# Altium schematic symbol library DIOT_PSU_integrated.SCHLIB: 41 symbols
Pins are listed as number, name and electrical type; pins without a type are passive.

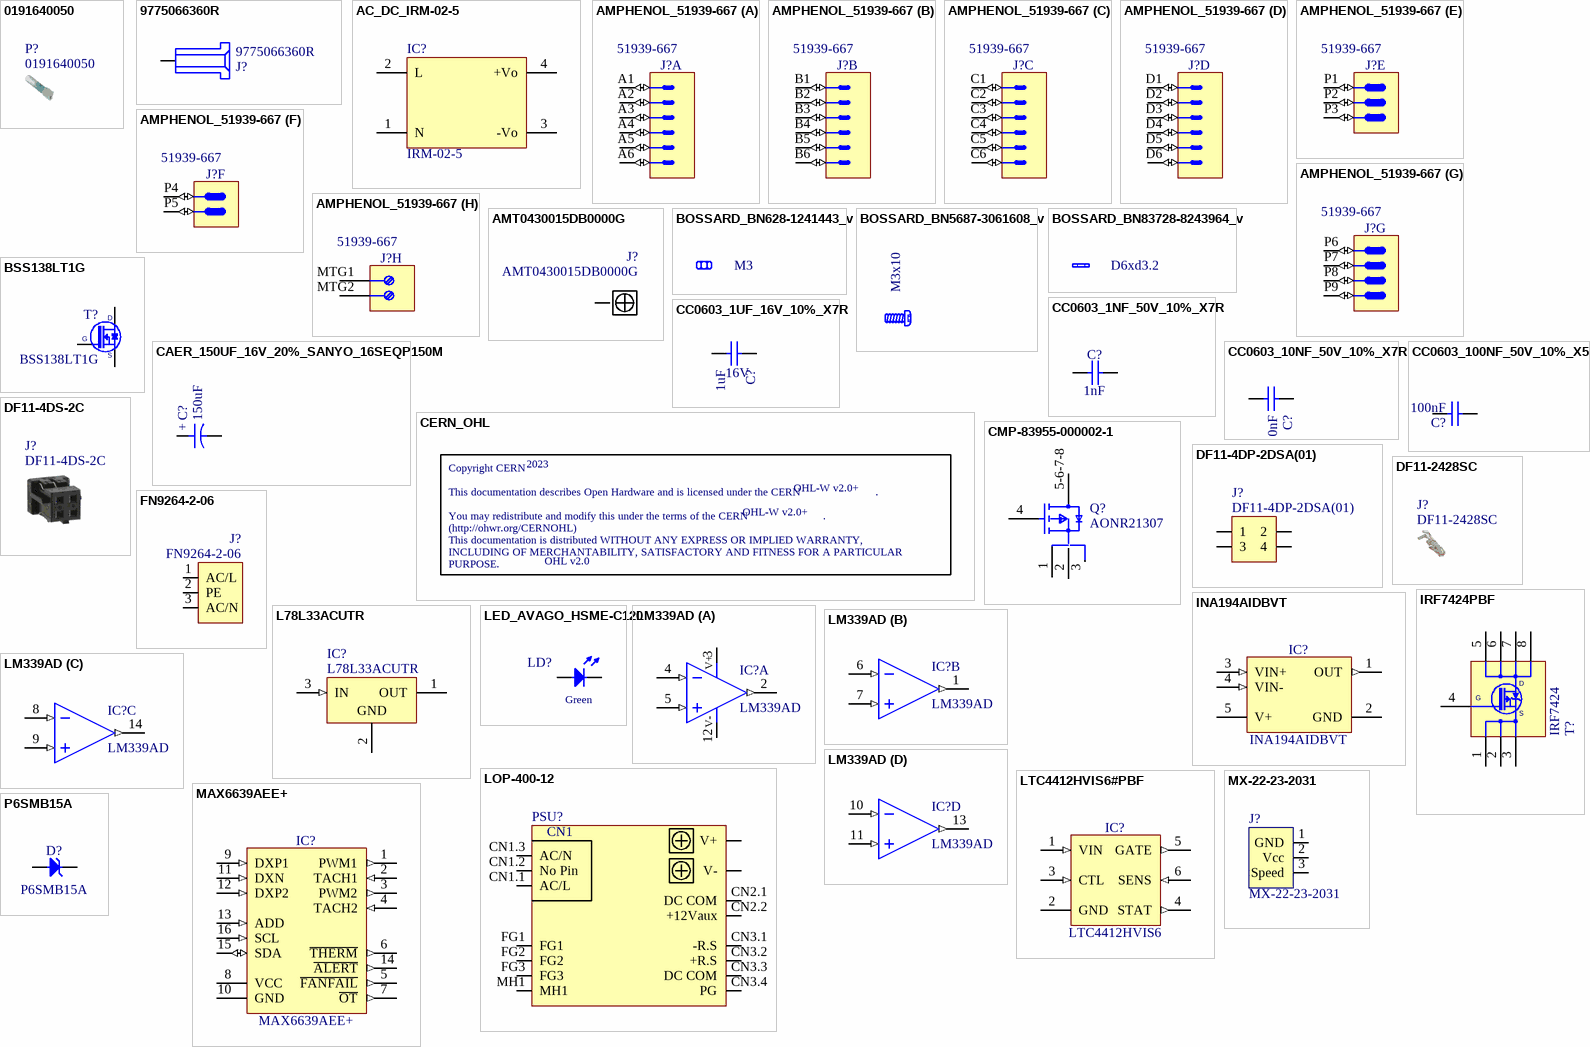
[diagram p0: symbols 0191640050 to P6SMB15A]

## 0191640050
designator P?
0.250" (6.35mm) Quick Connect Female 14-16 AWG Crimp Connector Fully Insulated Heat Shrink; Manufacturer: Molex; PressFit: No; Part Number: 0191640050; Component Kind: Socket Contact; Component Type: Socket Contact; Footprint: 0191640050; Pin Count: 1; Family: Perma-Seal; Mounted: Yes; Socket: No; SMD: No; Sense: No; Status: None; Part Description: 0.250" (6.35mm) Quick Connect Female 14-16 AWG Crimp Connector Fully Insulated Heat Shrink; Manufacturer Part Number: 0191640050; ComponentHeight: N/A; HelpURL: https://www.molex.com/en-us/products/part-detail/191640050?display=pdf; Author: LPA; CreateDate: 18.02.2025; LatestRevisionDate: 18.02.2025; ComponentLink1Description: Datasheet; ComponentLink1URL: https://www.molex.com/en-us/products/part-detail/191640050?display=pdf
footprint 0191640050 (Footprint not found)

## 9775066360R
designator J?
Round Standoff Threaded M3 Steel 0.039" (1.00mm); Manufacturer: Würth Elektronik; PressFit: No; Part Number: 9775066360R; Component Kind: Standard; Component Type: Standard; Footprint: 9775066360R; Pin Count: 1; Family: WA-SMSR; Mounted: Yes; Socket: No; SMD: No; Sense: No; Status: None; Part Description: Round Standoff Threaded M3 Steel 0.039" (1.00mm); Manufacturer Part Number: 9775066360R; ComponentHeight: 6.6mm; HelpURL: https://www.we-online.com/en/components/products/SMSR_SMD_STEEL_SPACER_M3_THREAD_INTERNAL#9775066360R; Author: LPA; CreateDate: 09.02.2025; LatestRevisionDate: 09.02.2025
footprint 9775066360R (Footprint not found)
pins: 1

## AC_DC_IRM-02-5
designator IC?, comment IRM-02-5
Power Supply; Part Description: 85-305VAC to 5VDC (400mA) 2W Power Supply; Manufacturer: MEAN WELL; PressFit: No; Bonding: No; Part Number: IRM-02-5; Component Kind: Standard; Component Type: Standard; Device: IRM-02-5; Footprint: PWS_MEANWELL_IRM-02; PackageDescription: IRM-02 Series, Body 33.7x22.2mm, Power Supply; Status: None; Manufacturer Part Number: IRM-02-5; Pin Count: 4; Mounted: Yes; Socket: No; SMD: No; Sense: No; ComponentHeight: 15mm; HelpURL: \\cern.ch\dfs\Applications\Altium\Datasheets\IRM-02-24.pdf; Author: GK; CreateDate: 14.02.2018; LatestRevisionDate: 14.02.2018
footprint PWS_MEANWELL_IRM-02
pins: 1 N (power), 2 L (power), 3 -Vo (power), 4 +Vo (power)

## AMPHENOL_51939-667
designator J?, comment Manufacturer Part Number: 51939-667  (hidden comment: PwrBlade)
Thru-Hole, Lead 3.43mm, PowerBlade Right Angled Power Connector 3ACP 2P 24S 4P Contacts; Part Number: AMPHENOL_51939-667; Part Description: Right Angle PowerBlade Power Connector 3ACP + 2P + 24S + 4P Contacts; Manufacturer: AMPHENOL; PressFit: No; Component Kind: Standard; Component Type: Standard; Footprint: AMPHENOL_51939-667; Pin Count: 33; Family: PwrBlade; Mounted: Yes; Socket: No; SMD: No; Sense: No; Status: None; ComponentHeight: 12.57mm; HelpURL: \\cern.ch\dfs\Applications\Altium\Datasheets\AMPHENOL_51939-667.pdf; Author: CERN DEM JLC; CreateDate: 05.03.2019; LatestRevisionDate: 05.03.2019
footprint AMPHENOL_51939-667
part A pins: A1 (io), A2 (io), A3 (io), A4 (io), A5 (io), A6 (io)
part B pins: B1 (io), B2 (io), B3 (io), B4 (io), B5 (io), B6 (io)
part C pins: C1 (io), C2 (io), C3 (io), C4 (io), C5 (io), C6 (io)
part D pins: D1 (io), D2 (io), D3 (io), D4 (io), D5 (io), D6 (io)
part E pins: P1 (io), P2 (io), P3 (io)
part F pins: P4 (io), P5 (io)
part G pins: P6 (io), P7 (io), P8 (io), P9 (io)
part H pins: MTG1 "Mounting Fixture", MTG2 "Mounting Fixture"

## AMT0430015DB0000G
designator J?
4 Pin Screw Terminal, Power Tap M3 Through Hole; Manufacturer: Amphenol Anytek; PressFit: No; Part Number: AMT0430015DB0000G; Component Kind: Standard; Component Type: Standard; Footprint: AMT0430015DB0000G; Pin Count: 4; Family: LOP-400; Mounted: Yes; Socket: No; SMD: No; Sense: No; Status: None; Part Description: 4 Pin Screw Terminal, Power Tap M3 Through Hole; Manufacturer Part Number: AMT0430015DB0000G; ComponentHeight: 12mm; HelpURL: https://www.anytek.com.cn/Upload/AMT43015DB-ed7a3ffa30954f7d99d4bb13dc927db5.pdf; Author: LPA; CreateDate: 09.02.2025; LatestRevisionDate: 09.02.2025
footprint AMT0430015DB0000G
pins: 1

## BOSSARD_BN628-1241443_v
designator NUT?, comment M3
Nut; Part Number: BOSSARD_BN628-1241443_v; Part Description: M3 Hexagon Nut ~0,8d, ISO 4032, DIN 934, Stainless Steel A2; Manufacturer: BOSSARD; Manufacturer Part Number: BN628 Art.1241443; PressFit: No; Component Kind: Standard; Component Type: Mechanical; Footprint: BOSSARD_BN628-1241443_v; Pin Count: 0; PackageDescription: M3 Hexagon Nut ~0,8d, ISO 4032, DIN 934, Stainless Steel A2; Mounted: Yes; Socket: No; SMD: No; Sense: No; Status: None; Value: M3; ComponentHeight: 2.4mm; HelpURL: \\cern.ch\dfs\Applications\Altium\Datasheets\BOSSARD_BN628-1241443.pdf; Author: CERN DEM JMW; CreateDate: 12/4/2015; LatestRevisionDate: 12/4/2015; ClassName: Overlapping
footprint BOSSARD_BN628-1241443_v

## BOSSARD_BN5687-3061608_v
designator SCREW?, comment M3x10
Screw; Part Number: BOSSARD_BN5687-3061608_v; Part Description: M3 L=10mm Hexalobular Socket Pan Head Screw, Fully Threaded, Stainless Steel A2; Manufacturer: BOSSARD; Manufacturer Part Number: BN5687 Art.3061608; PressFit: No; Component Kind: Standard; Component Type: Mechanical; Footprint: BOSSARD_BN5687-3061608_v; Pin Count: 0; PackageDescription: M3 L=10mm Hexalobular Socket Pan Head Screw, Fully Threaded - Stainless Steel A2; Mounted: Yes; Socket: No; SMD: No; Sense: No; Status: None; Value: M3x10; ComponentHeight: 12.4mm; HelpURL: \\cern.ch\dfs\Applications\Altium\Datasheets\BOSSARD_BN5687-3061608.pdf; Author: CERN DEM JLC; CreateDate: 22/08/2013; LatestRevisionDate: 22/08/2013; ClassName: Overlapping
footprint BOSSARD_BN5687-3061608_v

## BOSSARD_BN83728-8243964_v
designator WASHER?, comment D6xd3.2
Washer; Part Number: BOSSARD_BN83728-8243964_v; Part Description: Waved Spring Washer for M3 Screw - Steel 440-520 HV - Zinc Plated Blue; Manufacturer: BOSSARD; Manufacturer Part Number: BN83728 Art.8243964; PressFit: No; Component Kind: Standard; Component Type: Mechanical; Footprint: BOSSARD_BN83728-8243964_v; Pin Count: 0; PackageDescription: Waved Spring Washer for M3 Screw, Steel 440-520 HV, Zinc Plated Blue; Mounted: Yes; Socket: No; SMD: No; Sense: No; Status: None; Value: D6xd3.2; ComponentHeight: 0.4mm; HelpURL: \\cern.ch\dfs\Applications\Altium\Datasheets\BOSSARD_BN83728-8243964.pdf; Author: CERN DEM JLC; CreateDate: 27/04/2017; LatestRevisionDate: 27/04/2017; ClassName: Overlapping
footprint BOSSARD_BN83728-8243964_v

## BSS138LT1G
designator T?
N-CHANNEL MOSFET WITH DIODE; Part Description: 50V 200mA N-Channel Enhancement Mode Field-Effect Transistor; Manufacturer: ON SEMICONDUCTOR; PressFit: No; Bonding: No; Part Number: BSS138LT1G; Component Kind: Standard; Component Type: Standard; Device: BSS138LT1G; Footprint: SOT95P240X110-3N; PackageDescription: SOT23 3-Leads, Pitch 0.95mm - Body 1.4x3mm, IPC Medium Density; Manufacturer Part Number: BSS138LT1G; Pin Count: 3; Case: SOT23-3; Mounted: Yes; Socket: No; SMD: Yes; Sense: No; ComponentHeight: 1.11mm; HelpURL: \\cern.ch\dfs\Applications\Altium\Datasheets\BSS138LT1G.pdf; Author: CERN DEM JLC; CreateDate: 23.03.2009; LatestRevisionDate: 23.03.2009
footprint SOT95P240X110-3N
pins: 1 G, 2 S, 3 D

## CAER_150UF_16V_20%_SANYO_16SEQP150M
designator C?, comment 150uF
Polarised capacitor; Part Number: CAER_150UF_16V_20%_SANYO_16SEQP150M; Part Description: Aluminium Solid Capacitor with Conductive Polymer (SEQP Series); Manufacturer: SANYO OS-CON; Manufacturer Part Number: 16SEQP150M; Voltage: 16V; Tolerance: ±20%; Component Kind: Standard; Component Type: Standard; Footprint: CAPPR500-1050X800; Pin Count: 2; Value: 150uF; Status: Not Recommended; Case: LS5 D10 x H8; Mounted: Yes; Socket: No; SMD: No; Sense: No; ComponentHeight: 8mm; HelpURL: \\cern.ch\dfs\Applications\Altium\Datasheets\CAER_SANYO_SEQP.pdf; Author: CERN DEM JLC; CreateDate: 07.03.2011; LatestRevisionDate: 07.03.2011
footprint CAPPR500-1050X800
pins: 1, 2
text: +

## CC0603_1NF_50V_10%_X7R
designator C?, comment 1nF
Non-polarised capacitor; Part Number: CC0603_1NF_50V_10%_X7R; Part Description: SMD Multilayer Chip Ceramic Capacitor; Manufacturer: GENERIC; Manufacturer1 Part Number: 223858615623; Voltage: 50V; TC: X7R; Tolerance: ±10%; Component Kind: Standard; Component Type: Standard; Footprint: CAPC1608X87N; Pin Count: 2; Value: 1nF; Status: Preferred; Manufacturer Part Number: CC0603_1NF_50V_10%_X7R; Case: 0603; Mounted: Yes; Socket: No; SMD: Yes; Sense: No; Manufacturer1 Example: PHYCOMP; Manufacturer1 ComponentHeight: 0.87mm; HelpURL: \\cern.ch\dfs\Applications\Altium\Datasheets\CC0603_X7R_PHYCOMP.pdf; Author: CERN DEM JLC; CreateDate: 03.12.2007; LatestRevisionDate: 03.12.2007
footprint CAPC1608X87N
pins: 1, 2

## CC0603_1UF_16V_10%_X7R
designator C?, comment 1uF  Voltage: 16V
Non-polarised capacitor; Part Number: CC0603_1UF_16V_10%_X7R; Part Description: SMD Multilayer Chip Ceramic Capacitor; Manufacturer: GENERIC; Manufacturer1 Part Number: 223824613663; TC: X7R; Tolerance: ±10%; Table: Capacitors SMD; Component Kind: Standard; Component Type: Standard; Footprint: CAPC1608X87N; Pin Count: 2; Value: 1uF; Status: Preferred; Manufacturer Part Number: CC0603_1uF_16V_10%_X7R; Case: 0603; Mounted: Yes; Socket: No; SMD: Yes; Manufacturer1 Example: PHYCOMP; Manufacturer1 ComponentHeight: 0.87mm; HelpURL: \\cern.ch\dfs\Applications\Altium\Datasheets\CC0805_X5R_PHYCOMP_HC.pdf; Author: CERN DEM JLC; CreateDate: 12/3/2007; LatestRevisionDate: 12/3/2007
footprint CAPC1608X87N
footprint 0603C
pins: 1, 2

## CC0603_10NF_50V_10%_X7R
designator C?, comment 10nF
Non-polarised capacitor; Part Number: CC0603_10NF_50V_10%_X7R; Part Description: SMD Multilayer Chip Ceramic Capacitor; Manufacturer: GENERIC; Manufacturer1 Part Number: 223858615636; Voltage: 50V; TC: X7R; Tolerance: ±10%; Component Kind: Standard; Component Type: Standard; Footprint: CAPC1608X87N; Pin Count: 2; Value: 10nF; Status: Preferred; Manufacturer Part Number: CC0603_10NF_50V_10%_X7R; Case: 0603; Mounted: Yes; Socket: No; SMD: Yes; Sense: No; Manufacturer1 Example: PHYCOMP; Manufacturer1 ComponentHeight: 0.87mm; HelpURL: \\cern.ch\dfs\Applications\Altium\Datasheets\CC0603_X7R_PHYCOMP.pdf; Author: CERN DEM JLC; CreateDate: 03.12.2007; LatestRevisionDate: 03.12.2007
footprint CAPC1608X87N
pins: 1, 2

## CC0603_100NF_50V_10%_X5R
designator C?, comment 100nF
Non-polarised capacitor; Part Number: CC0603_100NF_50V_10%_X5R; Part Description: SMD Multilayer Chip Ceramic Capacitor; Manufacturer: GENERIC; Manufacturer1 Part Number: C1608X5R1H104K080; Voltage: 50V; TC: X5R; Tolerance: ±10%; Component Kind: Standard; Component Type: Standard; Footprint: CAPC1608X87N; Pin Count: 2; Value: 100nF; Status: None; Manufacturer Part Number: CC0603_100NF_50V_10%_X5R; Case: 0603; Mounted: Yes; Socket: No; SMD: Yes; Sense: No; Manufacturer1 Example: TDK; Manufacturer1 ComponentHeight: 0.9mm; HelpURL: \\cern.ch\dfs\Applications\Altium\Datasheets\CC0603_X5R_TDK_C.pdf; Author: CERN DEM MR; CreateDate: 08.01.2016; LatestRevisionDate: 08.01.2016
footprint CAPC1608X87N
pins: 1, 2

## CERN_OHL
designator OHL?  (value not drawn)  (no BOM)
Part Description: Copyright CERN; OHL_License: OHL-W v2.0+; OHL_Version: OHL v2.0; Mounted: No; OHL_Date: 2023; Part Number: CERN_OHL; Component Type: Standard (No BOM); Footprint: CERN_OHL; Pin Count: 0; Socket: No; SMD: No; Sense: No; Status: None; ComponentHeight: 0mm; HelpURL: Undefined; Author: CERN DEM HF; CreateDate: 03/12/2021; LatestRevisionDate: 03/12/2021; PackageDescription: Texte Copyright Cern
footprint CERN_OHL
text: Copyright CERN / This documentation describes Open Hardware and is licensed under the CERN                         . / You may redistribute and modify this under the terms of the CERN                         . / (http://ohwr.org/CERNOHL) / This documentation is distributed WITHOUT ANY EXPRESS OR IMPLIED WARRANTY, / INCLUDING OF MERCHANTABILITY, SATISFACTORY AND FITNESS FOR A PARTICULAR PURPOSE. / Please see the CERN                   for applicable conditions.

## CMP-83955-000002-1
designator Q?, comment AONR21307
MOSFET P-CH 30V 3X3 DFN; Manufacturer: Alpha & Omega Semiconductor; Reverse Recovery Time: 13.3ns; Reverse Recovery Charge: 20nC; Turn Off Delay Time: 43.5ns; Max Forward Diode Voltage: -1V; Gate Charge At Vgs: 35nC @ -10V; Threshold Vgs Min: -1.3V; Gate To Source Voltage: 25V; Turn On Delay Time: 11ns; Continuous Drain Current: -24A; Power Dissipation: 5W; Max Junction Temp: +150°C; Number Of P Channels: 1; Drain To Source Voltage: -30V; Standoff Height: 0mm; Input Capacitace At Vds: 1995pF @ -15V; Depletion Mode: False; Threshold Vgs Max: -2.3V; Rthja Max: 45°C/W; Drain To Source Resistance: 9.2mΩ; Pulse Drain Current: -82A; Typ Forward Diode Voltage: -0.7V; Temperature Range Low: -55°C; Device Class L1: Discrete Semiconductors; Footprint Url: http://www.aosmd.com/res/packaging_information/DFN3x3A_8L_EP1_P.pdf; ComponentLink2Description: Datasheet; Device Class L2: Transistors; ComponentLink2URL: http://www.aosmd.com/res/data_sheets/AONR21307.pdf; Automotive: No; Temperature: -55°C to +150°C; Octopart: https://octopart.com/aonr21307-alpha+%26+omega+semiconductor-96014004; RoHS: TRUE; Digikey Description: MOSFET P-CH 30V 3X3 DFN; Drain To Source Breakdown Voltage: -30V; Package: DFN3x3A_8L_EP1_P; Manufacturer Part Number: AONR21307; Category: Trans; Height: 0.9mm; Lead Free: Yes; Device Class L3: MOSFETs; Temperature Range High: +150°C; Number Of Channels: 1
footprint FP-DFN3x3A_8L_EP1_P-MFG
pins: 1 S, 2 S, 3 S, 4 G, 5-6-7-8 D

## DF11-4DP-2DSA(01)
designator J?
Part Description: Connector Header Through Hole 4 position 0.079" (2.00mm); Manufacturer: Hirose Electric Co Ltd; PressFit: No; Part Number: DF11-4DP-2DSA(01); Component Kind: Standard; Component Type: Standard; Pin Count: 1; Family: DF11; Mounted: Yes; Socket: No; SMD: No; Sense: No; Status: None; Manufacturer Part Number: DF11-4DP-2DSA(01); ComponentHeight: 6.6mm; HelpURL: https://www.hirose.com/de/product/document?clcode=&productname=&series=DF11&documenttype=Catalog&lang=en&documentid=en_DF11_CAT; Author: LPA; CreateDate: 09.02.2025; LatestRevisionDate: 09.02.2025
footprint DF11-4DP-2DSA(01) (Footprint not found)
pins: 1, 2, 3, 4

## DF11-4DS-2C
designator J?
4 Rectangular Connectors - Housings Receptacle Black 0.079" (2.00mm); Manufacturer: Hirose Electric Co Ltd; PressFit: No; Part Number: DF11-4DS-2C; Component Kind: Standard; Component Type: Standard; Footprint: DF11-4DS-2C; Pin Count: 1; Family: DF11; Mounted: Yes; Socket: No; SMD: No; Sense: No; Status: None; Part Description: 4 Rectangular Connectors - Housings Receptacle Black 0.079" (2.00mm); Manufacturer Part Number: DF11-4DS-2C; ComponentHeight: 7.3mm; HelpURL: https://www.hirose.com/de/product/document?clcode=&productname=&series=DF11&documenttype=Catalog&lang=en&documentid=en_DF11_CAT; Author: LPA; CreateDate: 09.02.2025; LatestRevisionDate: 09.02.2025
footprint DF11-4DS-2C (Footprint not found)

## DF11-2428SC
designator J?
Socket Contact Tin 24-28 AWG Crimp; Manufacturer: Hirose Electric Co Ltd; PressFit: No; Part Number: DF11-2428SC; Component Kind: Socket Contact; Component Type: Socket Contact; Footprint: DF11-2428SC; Pin Count: 1; Family: DF11; Mounted: Yes; Socket: No; SMD: No; Sense: No; Status: None; Part Description: Socket Contact Tin 24-28 AWG Crimp; Manufacturer Part Number: DF11-2428SC; ComponentHeight: N/A; HelpURL: https://www.hirose.com/product/download/?distributor=digikey&type=specSheet&lang=en&num=DF11-2428SC; Author: LPA; CreateDate: 09.02.2025; LatestRevisionDate: 09.02.2025
footprint DF11-2428SC (Footprint not found)

## FN9264-2-06
designator J?
Power Entry Connector Receptacle, Male Blades - Module IEC 320-C14 Panel Mount, Flange; Manufacturer: Schaffner EMC Inc.; PressFit: No; Part Number: FN9264-2-06; Footprint: FN9264-2-06; Pin Count: 3; Mounted: Yes; Socket: No; SMD: No; Sense: No; Status: None; Part Description: Power Entry Connector Receptacle, Male Blades - Module IEC 320-C14 Panel Mount, Flange; Manufacturer Part Number: FN9264-2-06; ComponentHeight: 35; HelpURL: https://www.farnell.com/datasheets/2341214.pdf; Author: LPA; CreateDate: 08.02.2025; LatestRevisionDate: 08.02.2025
footprint FN9264-2-06 (Footprint not found)
pins: 1 AC/L, 2 PE, 3 AC/N

## INA194AIDBVT
designator IC?
Current Shunt Monitor -16V to +80V Common-Mode Range; Manufacturer: TEXAS INSTRUMENTS; PressFit: No; Bonding: No; Part Number: INA194AIDBVT; Component Kind: Standard; Component Type: Standard; Device: INA194AIDBVT; Footprint: SOT95P280X145-5N; PackageDescription: SOT, 0.95mm pitch; 5 pin, 1.60mm W X 2.90mm L X 1.45mm H body, IPC Medium Density; Part Description: Current Shunt Monitor -16V to +80V Common-Mode Range; Manufacturer Part Number: INA194AIDBVT; Pin Count: 5; Case: SOT23-5; Mounted: Yes; Socket: No; SMD: Yes; Sense: No; ComponentHeight: 1.45mm; Author: CERN DEM JLC; HelpURL: \\cern.ch\dfs\Applications\Altium\Datasheets\INA194AIDBVT.pdf; CreateDate: 10.05.2010; LatestRevisionDate: 10.05.2010
footprint SOT95P280X145-5N
pins: 1 OUT (out), 2 GND (power), 3 VIN+ (in), 4 VIN- (in), 5 V+ (power)

## IRF7424PBF
designator T?, comment IRF7424
30V 11A P-Channel HEXFET® Power MOSFET; Part Number: IRF7424PBF; Part Description: -30V -11A P-Channel HEXFET® Power MOSFET; Manufacturer: INTERNATIONAL RECTIFIER; PressFit: No; Bonding: No; Component Kind: Standard; Component Type: Standard; Device: IRF7424; Footprint: SOIC127P600X175-8N; PackageDescription: SOIC 8, Pitch 1.27mm - Body 4x5mm, IPC Medium Density; Manufacturer Part Number: IRF7424; Pin Count: 8; Case: SOIC8; Mounted: Yes; Socket: No; SMD: Yes; Sense: No; ComponentHeight: 1.75mm; HelpURL: \\cern.ch\dfs\Applications\Altium\Datasheets\IRF7424PBF.pdf; Author: CERN DEM JLC; CreateDate: 11.01.2011; LatestRevisionDate: 02.06.2022
footprint SOIC127P600X175-8N
pins: 1 S, 2 S, 3 S, 4 G, 5 D, 6 D, 7 D, 8 D

## L78L33ACUTR
designator IC?
3-Terminal Regulator 1=OUT 2=GND 3=IN; Part Description: 33V 100mA Positive Voltage Regulator; Manufacturer: ST MICROELECTRONICS; PressFit: No; Bonding: No; Part Number: L78L33ACUTR; Component Kind: Standard; Component Type: Standard; Device: L78L33ACUTR; Footprint: SOT89; PackageDescription: SOT89-3, 3-Leads, Body 2.44x4.5mm; Manufacturer Part Number: L78L33ACUTR; Pin Count: 4; Case: SOT89; Mounted: Yes; Socket: No; SMD: Yes; Sense: No; ComponentHeight: 1.6mm; HelpURL: \\cern.ch\dfs\Applications\Altium\Datasheets\L78L33ACUTR.pdf; Author: CERN DEM JLC; CreateDate: 12.05.2014; LatestRevisionDate: 12.05.2014
footprint SOT89
pins: 1 OUT (power), 2 GND (power), 3 IN (in)

## LED_AVAGO_HSME-C120
designator LD?, comment Green
LED Green 1C 2A; Part Number: LED_AVAGO_HSME-C120; Part Description: High Performance Right Angle Chip Green LED; Manufacturer: AVAGO TECHNOLOGIES; Manufacturer Part Number: HSME-C120; PressFit: No; Bonding: No; Component Kind: Standard; Component Type: Standard; Color: Green; Footprint: LED_AVAGO_HSME-C120; PackageDescription: Green Chip LED, 2-Leads, Body 1.7x1.1mm, Side Emitting Package; Pin Count: 2; Mounted: Yes; Socket: No; SMD: Yes; Sense: No; ComponentHeight: 0.7mm; HelpURL: \\cern.ch\dfs\Applications\Altium\Datasheets\LED_AVAGO_HSME-C120.pdf; ComponentLink1URL: \\cern.ch\dfs\Applications\Altium\Datasheets\LED_AVAGO_HSME-C110_DESIGN-GUIDE.pdf; ComponentLink1Description: Design Guide; Author: CERN DEM JMW; CreateDate: 22.07.2009; LatestRevisionDate: 20.06.2012
footprint LED_AVAGO_HSME-C120
pins: 1 C, 2 A
1 alternate drawing of the same symbol

## LM339AD
designator IC?
Quad Operational Amplifier; Part Description: Quad Differential Comparator; Manufacturer: TEXAS INSTRUMENTS; PressFit: No; Bonding: No; Part Number: LM339AD; Component Kind: Standard; Component Type: Standard; Device: LM339AD; Footprint: SOIC127P600X175-14N; PackageDescription: SOIC 14, Pitch 1.27mm - Body 4x8.75mm, IPC Medium Density; Manufacturer Part Number: LM339AD; Pin Count: 14; Case: SOIC14; Mounted: Yes; Socket: No; SMD: Yes; Sense: No; ComponentHeight: 1.75mm; Author: CERN DEM JLC; HelpURL: \\cern.ch\dfs\Applications\Altium\Datasheets\LM339AD.pdf; CreateDate: 09.03.2011; LatestRevisionDate: 09.03.2011
footprint SOIC127P600X175-14N
part A pins: 2 OUT (out), 3 V+, 4 IN- (in), 5 IN+ (in), 12 V-
part B pins: 1 OUT (out), 6 IN- (in), 7 IN+ (in)
part C pins: 8 IN- (in), 9 IN+ (in), 14 OUT (out)
part D pins: 10 IN- (in), 11 IN+ (in), 13 OUT (out)
1 alternate drawing of the same symbol

## LOP-400-12
designator PSU?, comment LOP-400  (value not drawn)
AC-DC low profile open frame power supply; 150% peak for 3s; 250W convection and 400W fan cooling; input 80~264Vac; output 12Vdc; wide operating temperature range -40°~+80°C; aux 12V/0.5A for external fan; industrial EN/UL62368-1, household EN/UL60335-1 and medical EN/UL60601-1 multi-field certification; suitable for class I and class II applications; Part Number: LOP-400-12; Part Description: Right Angle PowerBlade Power Connector 3ACP + 2P + 24S + 4P Contacts; Manufacturer: MEANWELL; PressFit: No; Component Kind: Standard; Component Type: Standard; Footprint: LOP-400-12; Pin Count: 11; Family: LOP-400; Mounted: Yes; Socket: No; SMD: No; Sense: No; Status: None; Manufacturer Part Number: LOP-400-12; ComponentHeight: 27.5±1mm; HelpURL: https://www.meanwell.com/webapp/product/search.aspx?prod=LOP-400; Author: LPA; CreateDate: 08.02.2025; LatestRevisionDate: 08.02.2025
footprint LOP-400-12 (Footprint not found)
pins: CN1.1 AC/L, CN1.2 No Pin, CN1.3 AC/N, CN2.1 DC COM, CN2.2 +12Vaux, CN3.1 -R.S, CN3.2 +R.S, CN3.3 DC COM, CN3.4 PG, FG1, FG2, FG3, MH1, V+, V-
text: CN1

## LTC4412HVIS6#PBF
designator IC?, comment LTC4412HVIS6
36V, Low Loss PowerPathTM Controller in ThinSOT; Part Number: LTC4412HVIS6#PBF; Part Description: 36V, Low Loss PowerPath Controller in ThinSOT; Manufacturer: LINEAR TECHNOLOGY; PressFit: No; Bonding: No; Component Kind: Standard; Component Type: Standard; Device: LTC4412HVIS6; Footprint: SOT95P280X100-6N; PackageDescription: SOT, 0.95mm Pitch; 6 Pin, 1.625mm W X 2.90mm L X 1.00mm H body, IPC Medium Density; Manufacturer Part Number: LTC4412HVIS6; Pin Count: 6; Case: SOT23-6; Mounted: Yes; Socket: No; SMD: Yes; Sense: No; ComponentHeight: 1mm; Author: CERN DEM JLC; HelpURL: \\cern.ch\dfs\Applications\Altium\Datasheets\LTC4412HVIS6#PBF.pdf; CreateDate: 22.03.2018; LatestRevisionDate: 02.02.2022
footprint SOT95P280X100-6N
pins: 1 VIN (in), 2 GND (power), 3 CTL (in), 4 STAT (out), 5 GATE (out), 6 SENS (in)

## MAX6639AEE+
designator IC?
2-Channel Temperature Monitor with Dual, Automatic, PWM Fan-Speed Controller; Manufacturer: MAXIM; Table: Analog & Interface; Part Number: MAX6639AEE+; Component Kind: Standard; Component Type: Standard; Device: MAX6639AEE+; Footprint: SOP63P600X175-16N; PackageDescription: SOP, 0.635mm pitch; 16 pin, 3.9mm W X 4.895mm L X 1.75mm H Body, IPC Medium Density; Part Description: 2-Channel Temperature Monitor with Dual, Automatic, PWM Fan-Speed Controller; Manufacturer Part Number: MAX6639AEE+; Pin Count: 16; Case: SSOP16; Mounted: Yes; Socket: No; SMD: Yes; ComponentHeight: 1.75mm; Author: CERN DEM JLC; HelpURL: \\cern.ch\dfs\Applications\Altium\Datasheets\MAX6639AEE+.pdf; CreateDate: 2012-08-15; LatestRevisionDate: 2012-08-15
footprint SOP63P600X175-16N (SOP, 0.635mm pitch; 16 pin, 3.9mm W X 4.895mm L X 1.75mm H Body, IPC Medium Density)
pins: 1 PWM1 (out), 2 TACH1 (in), 3 PWM2 (out), 4 TACH2 (in), 5 ~{FANFAIL} (out), 6 ~{THERM} (out), 7 ~{OT} (out), 8 VCC (power), 9 DXP1 (in), 10 GND (power), 11 DXN (in), 12 DXP2 (in), 13 ADD (in), 14 ~{ALERT} (out), 15 SDA (io), 16 SCL (in)

## MX-22-23-2031
designator J?
Gniazdo; FAN; przewód-płytka; męskie; PIN:3; 2,54mm; THT; KK 254; proste; Manufacture: Molex; DafaultFootprint: Molex 3-pin; Parameter1: No. of Position; Shop1: TME; Value1: 3; Assembly: THT; ComponentLink1Description: Datasheet; ComponentLink1URL: https://www.tme.eu/pl/Document/dac536c778e10636339fa400de171f1f/MX-22-23-2031.pdf; ComponentSymbol: MX-22-23-2031; ComponentType: Connector; Shop1ID: MX-22-23-2031
footprint Molex 22-23-2031 (3-pin Molex Fan connector)
pins: 1 GND (power), 2 Vcc (power), 3 Speed (oc)

## P6SMB15A
designator D?
Transient Voltage Suppressor Diode (Uni-Directional); Part Description: Uni-directional Transient Voltage Suppressor (TVS) Diode; Manufacturer: LITTELFUSE; Voltage: 15V; Power: 600W; PressFit: No; Bonding: No; Part Number: P6SMB15A; Component Kind: Standard; Component Type: Standard; Device: P6SMB15A; Footprint: DIOM5436X261N; PackageDescription: DO-214-AA/SMB Diode, Molded Body; 5.40mm L X 3.62mm W X 2.61mm H, IPC Medium Density; Manufacturer Part Number: P6SMB15A; Pin Count: 2; Case: SMB; Mounted: Yes; Socket: No; SMD: Yes; Sense: No; ComponentHeight: 2.61mm; HelpURL: \\cern.ch\dfs\Applications\Altium\Datasheets\P6SMB15A.pdf; Author: CERN DEM JLC; CreateDate: 12.07.2017; LatestRevisionDate: 12.07.2017
footprint DIOM5436X261N
pins: 1 C, 2 A

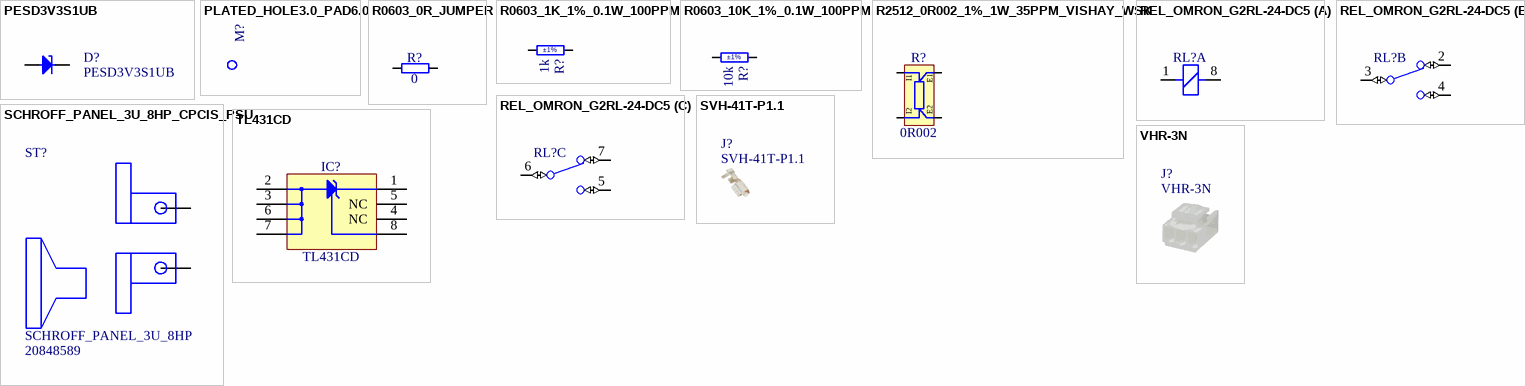
[diagram p1: symbols PESD3V3S1UB to VHR-3N]

## PESD3V3S1UB
designator D?
ESD protection diode; Part Description: ESD protection diode (23kV); Manufacturer: NXP SEMICONDUCTORS; Voltage: 3V3; Power: 330W; PressFit: No; Bonding: No; Part Number: PESD3V3S1UB; Component Kind: Standard; Component Type: Standard; Device: PESD3V3S1UB; Footprint: SODFL1608X65N; PackageDescription: Ultra Small Outline Diode Flat Lead (SOD-523), Body; 1.2mm L X 0.8mm W X 0.65mm H, IPC Medium Density; Manufacturer Part Number: PESD3V3S1UB; Pin Count: 2; Case: SOD523; Mounted: Yes; Socket: No; SMD: Yes; Sense: No; ComponentHeight: 0.65mm; HelpURL: \\cern.ch\dfs\Applications\Altium\Datasheets\PESD3V3S1UB.pdf; Author: CERN DEM JLC; CreateDate: 29.11.2012; LatestRevisionDate: 29.11.2012
footprint SODFL1608X65N
pins: 1 C, 2 A

## PLATED_HOLE3.0_PAD6.0
designator M?, comment Plated Hole  (value not drawn)  (no BOM)
Single Terminal Socket; Part Number: PLATED_HOLE3.0_PAD6.0; Part Description: Plated Through Hole: Hole Dia.=3.0mm Pad Dia.=6.0mm; Mounted: No; Table: Pads; Component Type: Standard (No BOM); Designator: Single Terminal Socket; Footprint: MTG300_600; Library Reference: Single Terminal Socket; Pin Count: 1; Family: Plated Hole; Socket: No; SMD: No; Status: None; ComponentHeight: 0mm; Author: CERN DEM JLC; CreateDate: 26.05.2008; LatestRevisionDate: 26.05.2008; PackageDescription: Plated Through Hole: Hole Dia.=3.0mm Pad Dia.=6.0mm
footprint MTG300_600
pins: 1 (io)

## R0603_0R_JUMPER
designator R?, comment 0
Resistor; Part Number: R0603_0R_JUMPER; Part Description: 1A (0.05R Max DC Resistance) Zero Ohm Jumper; Manufacturer: GENERIC; Manufacturer1 Part Number: NRC06Z0; PressFit: No; Component Kind: Standard; Component Type: Standard; Footprint: RESC1608X55N; Pin Count: 2; Value: 0; Status: Preferred; Manufacturer Part Number: R0603_0R_JUMPER; Case: 0603; Mounted: Yes; Sense: No; Socket: No; SMD: Yes; Manufacturer1 Example: NIC COMPONENT; Manufacturer1 ComponentHeight: 0.55mm; HelpURL: \\cern.ch\dfs\Applications\Altium\Datasheets\R0603_NIC_NRC.pdf; Author: CERN DEM JLC; CreateDate: 03.12.2007; LatestRevisionDate: 13.03.2008
footprint RESC1608X55N
pins: 1, 2

## R0603_1K_1%_0.1W_100PPM
designator R?, comment 1k  Tolerance: ±1%
Resistor - 1%; Part Number: R0603_1K_1%_0.1W_100PPM; Part Description: General Purpose Thick Film Chip Resistor; Manufacturer: GENERIC; Manufacturer1 Part Number: NRC06F1001TRF; Power: 0.1W; TC: ±100ppm/°C; PressFit: No; Component Kind: Standard; Component Type: Standard; Footprint: RESC1608X55N; Pin Count: 2; Value: 1k; Status: Preferred; Manufacturer Part Number: R0603_1K_1%_0.1W_100PPM; Case: 0603; Mounted: Yes; Sense: No; Socket: No; SMD: Yes; Manufacturer1 Example: NIC COMPONENT; Manufacturer1 ComponentHeight: 0.55mm; HelpURL: \\cern.ch\dfs\Applications\Altium\Datasheets\R0603_NIC_NRC.pdf; Author: CERN DEM JLC; CreateDate: 03.12.2007; LatestRevisionDate: 13.03.2008
footprint RESC1608X55N
pins: 1, 2

## R0603_10K_1%_0.1W_100PPM
designator R?, comment 10k  Tolerance: ±1%
Resistor - 1%; Part Number: R0603_10K_1%_0.1W_100PPM; Part Description: General Purpose Thick Film Chip Resistor; Manufacturer: GENERIC; Manufacturer1 Part Number: NRC06F1002TRF; Power: 0.1W; TC: ±100ppm/°C; PressFit: No; Component Kind: Standard; Component Type: Standard; Footprint: RESC1608X55N; Pin Count: 2; Value: 10k; Status: Preferred; Manufacturer Part Number: R0603_10K_1%_0.1W_100PPM; Case: 0603; Mounted: Yes; Sense: No; Socket: No; SMD: Yes; Manufacturer1 Example: NIC COMPONENT; Manufacturer1 ComponentHeight: 0.55mm; HelpURL: \\cern.ch\dfs\Applications\Altium\Datasheets\R0603_NIC_NRC.pdf; Author: CERN DEM JLC; CreateDate: 03.12.2007; LatestRevisionDate: 13.03.2008
footprint RESC1608X55N
pins: 1, 2

## R2512_0R002_1%_1W_35PPM_VISHAY_WSK
designator R?, comment 0R002
Power and Current Sensing Resistor; Part Number: R2512_0R002_1%_1W_35PPM_VISHAY_WSK; Part Description: Power Metal Strip® Resistor, Low Value; Manufacturer: VISHAY DALE; Manufacturer Part Number: WSK25122L000FEA; Power: 1W; TC: ±35ppm/°C; Tolerance: ±1%; PressFit: No; Component Kind: Standard; Component Type: Standard; Footprint: RES_VISHAY_WSK2512_0R005-0R2; Pin Count: 4; Value: 0R002; Status: None; Case: 2512; Mounted: Yes; Sense: No; Socket: No; SMD: Yes; ComponentHeight: 0.89mm; HelpURL: \\cern.ch\dfs\Applications\Altium\Datasheets\R2512_VISHAY_WSK.pdf; Author: CERN DEM MR; CreateDate: 08.11.2016; LatestRevisionDate: 19.02.2018
footprint RES_VISHAY_WSK2512_0R005-0R2
pins: E1, E2, I1, I2

## REL_OMRON_G2RL-24-DC5
designator RL?, comment REL_OMRON_G2RL-24  (value not drawn)
DPDT Power Relay, G2RL Series; Part Number: REL_OMRON_G2RL-24-DC5; Part Description: 8A@250VAC, DPDT Power Relay, G2RL Series; Manufacturer: OMRON ELECTRONIC; Manufacturer Part Number: G2RL-24-DC5; PressFit: No; Sense Comment: Sensitive=No (Component Sealed); Value: 5VDC; Component Kind: Standard; Component Type: Standard; Footprint: REL_OMRON_G2RL-24; Pin Count: 8; PackageDescription: 8 Leads, Row Spacing 7.5mm; Body 29mm x 12.7mm, OMRON_G2RL Series; Mounted: Yes; Socket: No; SMD: No; Sense: No; Status: None; ComponentHeight: 15.7mm; HelpURL: \\cern.ch\dfs\Applications\Altium\Datasheets\REL_OMRON_G2RL-24.pdf; Author: CERN DEM BC; CreateDate: 11.09.2023; LatestRevisionDate: 11.09.2023
footprint REL_OMRON_G2RL-24
part A pins: 1, 8
part B pins: 2 NC (io), 3 C (io), 4 NO (io)
part C pins: 5 NO (io), 6 C (io), 7 NC (io)

## SCHROFF_PANEL_3U_8HP_CPCIS_PSU
designator ST?, comment SCHROFF_PANEL_3U_8HP  Manufacturer Part Number 2: 20848589
Schroff 8HP 4U EUROCARD Panel with ejector; Manufacturer: Schroff; Manufacturer Part Number: 20848589
footprint SCHROFF_PANEL_3HP_8U_CPCIS_AC_PSU (Footprint not found)
pins: MH1, MH2

## SVH-41T-P1.1
designator J?
Socket Contact Tin 16-20 AWG Crimp; Manufacturer: JST Sales America Inc.; PressFit: No; Part Number: SVH-41T-P1.1; Component Kind: Socket Contact; Component Type: Socket Contact; Footprint: SVH-41T-P1.1; Pin Count: 1; Family: vh; Mounted: Yes; Socket: No; SMD: No; Sense: No; Status: None; Part Description: Socket Contact Tin 16-20 AWG Crimp; Manufacturer Part Number: SVH-41T-P1.1; ComponentHeight: N/A; HelpURL: https://www.jst-mfg.com/product/pdf/eng/eVH.pdf; Author: LPA; CreateDate: 09.02.2025; LatestRevisionDate: 09.02.2025
footprint SVH-41T-P1.1 (Footprint not found)

## TL431CD
designator IC?
Precision Programmable Reference; Part Description: Vref (2.5V) To 36V 2% Precision Programmable Reference; Manufacturer: TEXAS INSTRUMENTS; PressFit: No; Bonding: No; Part Number: TL431CD; Component Kind: Standard; Component Type: Standard; Device: TL431CD; Footprint: SOIC127P600X175-8N; PackageDescription: SOIC 8, Pitch 1.27mm, Body 4x5mm, IPC Medium Density; Manufacturer Part Number: TL431CD; Pin Count: 8; Case: SOIC8; Mounted: Yes; Socket: No; SMD: Yes; Sense: No; ComponentHeight: 1.75mm; HelpURL: \\cern.ch\dfs\Applications\Altium\Datasheets\TL431CD.pdf; Author: CERN DEM JLC; CreateDate: 18.01.2011; LatestRevisionDate: 28.02.2011
footprint SOIC127P600X175-8N
pins: 1 C, 2 A, 3 A, 4 NC, 5 NC, 6 A, 7 A, 8 REF

## VHR-3N
designator J?
3 Rectangular Connectors - Housings Receptacle Natural 0.156" (3.96mm); Manufacturer: JST Sales America Inc.; PressFit: No; Part Number: VHR-3N; Component Kind: Standard; Component Type: Standard; Footprint: VHR-3N; Pin Count: 1; Family: VH; Mounted: Yes; Socket: No; SMD: No; Sense: No; Status: None; Part Description: 3 Rectangular Connectors - Housings Receptacle Natural 0.156" (3.96mm); Manufacturer Part Number: VHR-3N; HelpURL: https://www.jst-mfg.com/product/pdf/eng/eVH.pdf; Author: LPA; CreateDate: 09.02.2025; LatestRevisionDate: 09.02.2025
footprint VHR-3N (Footprint not found)